# EAGLE library part 125KHZ-ID-MODULE (library MiiLib)
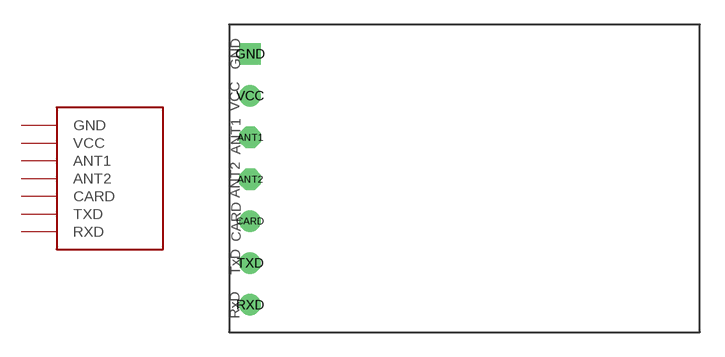
[diagram p8: symbol with the pads of 125KHZ-ID-MODULE; footprint 125KHZ-ID-MODULE]

Designator prefix -

## 125KHZ-ID-MODULE  [125KHZ-ID-MODULE]
ANT1  ANT1
ANT2  ANT2
CARD  CARD
GND  GND
RXD  RXD
TXD  TXD
VCC  VCC

## Footprint 125KHZ-ID-MODULE (pad centres in mm)
drill 0.8 octagon: ANT1 -3.81,2.54; ANT2 -3.81,0
drill 0.8: CARD -3.81,-2.54; RXD -3.81,-7.62; TXD -3.81,-5.08; VCC -3.81,5.08
drill 0.8 square: GND -3.81,7.62